# Altium schematic symbol library ebf_f407 motor dev board_原理图封装_AD格式.SCHLIB: 105 symbols
Pins are listed as number, name and electrical type; pins without a type are passive.

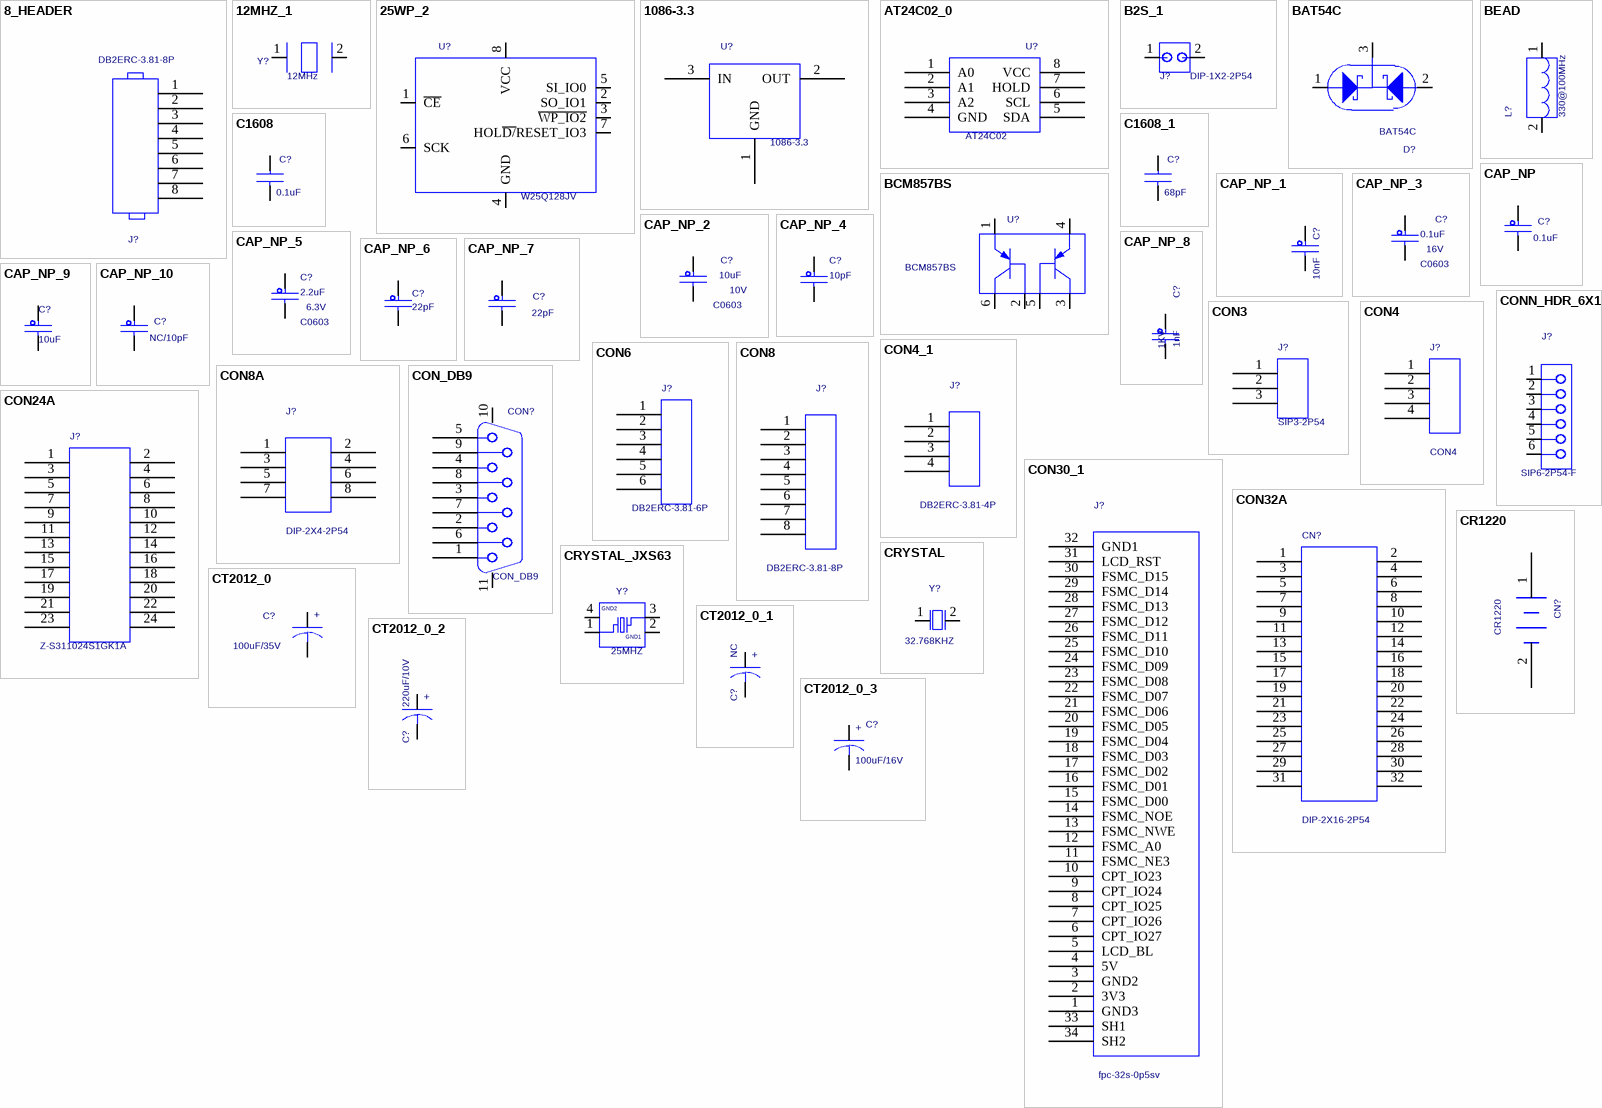
[diagram p0: symbols 8_HEADER to CT2012_0_3]

## 8_HEADER
designator J?  value DB2ERC-3.81-8P  (hidden comment: 8_HEADER)
PCB DECAL: DB2ERC-3P81-8P; Source_Path: C:\MYPROGRAM\CADENCE\SPB_16.6\TOOLS\CAPTURE\LIBRARY\CONNECTOR.OLB
footprint DB2ERC-3P81-8P
pins: 1, 2, 3, 4, 5, 6, 7, 8

## 12MHZ_1
designator Y?  value 12MHz  (hidden comment: 12MHZ_1)
PCB DECAL: XTAL-DIP; Source_Path: H:\NXP_RT1050\SCH\IMXRT1052_MB.DSN
footprint XTAL-DIP
pins: 1, 2

## 25WP_2
designator U?  value W25Q128JV  (hidden comment: 25WP_2)
IC MEM FLASH QPI 64Mb 1.65-1.95V SOIC8W; PCB DECAL: SOIC8-208; AGILE_PN: 334-77734; MFG_NAME01: ISSI; MFG_PN01: IS25WP064A-JBLE; Temp_Range: -40C to +105C; CAD_APPROVED: Yes; Source_Path: H:\NXP_RT1050\SCH\SCHLIB\IMXRT1052_1205.DSN; ROHS: Yes; HEIGHT: 2.16MM; CLASS: IC
footprint SOIC8-208
pins: 1 ~{CE}, 2 SO_IO1, 3 ~{WP_IO2}, 4 GND (power), 5 SI_IO0, 6 SCK, 7 HOL~{D/}RESET_IO3, 8 VCC (power)

## 1086-3.3
designator U?
PCB DECAL: TO252-2; Source_Path: H:\NXP_RT1050\SCH\SCHLIB\YHSCHLIB.OLB; Value: 1086-3.3
footprint TO252-2
pins: 1 GND, 2 OUT, 3 IN

## AT24C02_0
designator U?  value AT24C02  (hidden comment: AT24C02_0)
PCB DECAL: SOP8; Source_Path: F:\STM32\F407\F407 PRO\SCH\野火_F407霸天虎_原理图_V2.0.DSN; OriginalSymbolOrigin: (-20000,30000)
footprint SOP8
pins: 1 A0, 2 A1, 3 A2, 4 GND, 5 SDA, 6 SCL, 7 HOLD, 8 VCC

## B2S_1
designator J?  value DIP-1X2-2P54  (hidden comment: B2S_1)
PCB DECAL: HDR102; Source_Path: F:\STM32\F429\SCH\V4\STM32F429_F767_H743_MB_1129.DSN
footprint HDR102
pins: 1, 2

## BAT54C
designator D?
PCB DECAL: SOT23; Source_Path: C:\MYPROGRAM\CADENCE\SPB_16.6\TOOLS\CAPTURE\LIBRARY\SCH.OLB; Value: BAT54C
footprint SOT23
pins: 1 ANODE, 2 NC, 3 CATHODE

## BCM857BS
designator U?
PCB DECAL: SOT-363; Source_Path: E:\Z\20200420_7INC_LCD\SCH\LIBRARY1.OLB; Value: BCM857BS
footprint SOT-363
pins: 1, 2, 3, 4, 5, 6

## BEAD
designator L?  value 330@100MHz  (hidden comment: BEAD)
IND FER BEAD 330OHM@100MHZ 1.7A 0603; PART_TYPE: FERRITE\BEAD; AGILE_PN: 180-78156; Tolerance: 25%; MFG_NAME01: TDK; MFG_PN01: MPZ1608S331A; CAD_APPROVED: Yes; PCB DECAL: L0603; Source_Path: Q:\ORCADCIS\SYMBOLS\FCL_INDUCTOR.OLB; CLASS: DISCRETE; ROHS: Yes; HEIGHT: 0.95MM; TOL: 25%
footprint L0603
pins: 1, 2

## C1608
designator C?  value 0.1uF  (hidden comment: C1608)
PCB DECAL: C0603; Source_Path: D:\SOPGODS_VIEW_AP\MOBILE_AP_APPLICATION\LIBRARY\ORCAD\DEVICE.OLB
footprint C0603
pins: 1, 2

## C1608_1
designator C?, comment value 68pF  (hidden comment: C1608)
PCB DECAL: C0603; Source_Path: D:\SOPGODS_VIEW_AP\MOBILE_AP_APPLICATION\LIBRARY\ORCAD\DEVICE.OLB
footprint C0603
pins: 1, 2

## CAP_NP
designator C?  value 0.1uF  (hidden comment: CAP_NP)
CAP CER 0.1UF 10V 10% X5R 0402; PCB DECAL: C0603; AGILE_PN: 150-75634; MFG_NAME01: KEMET; MFG_PN01: C0402C104K8PAC; CAD_APPROVED: Yes; FPLIST: CC0402_25,CC0402_HD,0402_CC; Source_Path: Q:\ORCADCIS\SYMBOLS\FCL_CAPACITOR.OLB; CLASS: DISCRETE; Tolerance: 10%; ROHS: Yes; HEIGHT: 0.64MM; VOLTAGE: 10V
footprint C0603
pins: 1, 2

## CAP_NP_1
designator C?, comment value 10nF  (hidden comment: CAP_NP)
CAP CER 0.1UF 10V 10% X5R 0402; PCB DECAL: C0603; AGILE_PN: 150-75634; MFG_NAME01: KEMET; MFG_PN01: C0402C104K8PAC; CAD_APPROVED: Yes; FPLIST: CC0402_25,CC0402_HD,0402_CC; Source_Path: Q:\ORCADCIS\SYMBOLS\FCL_CAPACITOR.OLB; CLASS: DISCRETE; Tolerance: 10%; ROHS: Yes; HEIGHT: 0.64MM; VOLTAGE: 10V
footprint C0603
pins: 1, 2

## CAP_NP_2
designator C?, comment value 10uF  PCB DECAL: C0603  voltage_rating: 10V  (hidden comment: CAP_NP)
CAP CER 22UF 6.3V 20% X5R 0603; FPLIST: CC0603_OV,CC0603,0603_CC; CAD_APPROVED: Yes; MFG_PN01: CL10A226MQ8NRNE; MFG_NAME01: Samsung; AGILE_PN: 150-78467; Source_Path: Q:\ORCADCIS\SYMBOLS\FCL_CAPACITOR.OLB; CLASS: DISCRETE; VOLTAGE: 6.3V; HEIGHT: 1MM; ROHS: Yes; Tolerance: 20%
footprint C0603
pins: 1, 2

## CAP_NP_3
designator C?, comment value 0.1uF  voltage_rating: 16V  PCB DECAL: C0603  (hidden comment: CAP_NP)
CAP CER 22UF 6.3V 20% X5R 0603; AGILE_PN: 150-78467; MFG_NAME01: Samsung; MFG_PN01: CL10A226MQ8NRNE; CAD_APPROVED: Yes; FPLIST: CC0603_OV,CC0603,0603_CC; Source_Path: Q:\ORCADCIS\SYMBOLS\FCL_CAPACITOR.OLB; CLASS: DISCRETE; Tolerance: 20%; ROHS: Yes; HEIGHT: 1MM; VOLTAGE: 6.3V
footprint C0603
pins: 1, 2

## CAP_NP_4
designator C?, comment value 10pF  (hidden comment: CAP_NP)
CAP CER 18PF 50V 1% C0G 0402; ROOM: ATLAS-AP; PRIORITY_PN: 021-00248; CAD_APPROVED: Yes; MFG_PN01: CC0402FRNPO9BN180; MFG_NAME01: YAGEO; AGILE_PN: 150-76630; FPLIST: CC0402_25,CC0402_HD,0402_CC; PCB DECAL: C0603; Source_Path: Q:\ORCADCIS\SYMBOLS\FCL_CAPACITOR.OLB; CLASS: DISCRETE; VOLTAGE: 50V; HEIGHT: 0.59MM; ROHS: Yes; Tolerance: 1%
footprint C0603
pins: 1, 2

## CAP_NP_5
designator C?, comment value 2.2uF  voltage_rating: 6.3V  PCB DECAL: C0603  (hidden comment: CAP_NP)
CAP CER 22UF 6.3V 20% X5R 0603; AGILE_PN: 150-78467; MFG_NAME01: Samsung; MFG_PN01: CL10A226MQ8NRNE; CAD_APPROVED: Yes; FPLIST: CC0603_OV,CC0603,0603_CC; Source_Path: Q:\ORCADCIS\SYMBOLS\FCL_CAPACITOR.OLB; CLASS: DISCRETE; Tolerance: 20%; ROHS: Yes; HEIGHT: 1MM; VOLTAGE: 6.3V
footprint C0603
pins: 1, 2

## CAP_NP_6
designator C?, comment value 22pF  (hidden comment: CAP_NP)
CAP CER 4.7PF 50V 0.25PF C0G 0402; FPLIST: CC0402_25,CC0402_HD,0402_CC; CAD_APPROVED: Yes; MFG_PN01: GRM1555C1H4R7CA01D; MFG_NAME01: MURATA; AGILE_PN: 150-76335; PCB DECAL: C0603; Source_Path: Q:\ORCADCIS\SYMBOLS\FCL_CAPACITOR.OLB; CLASS: DISCRETE; VOLTAGE: 50V; HEIGHT: 0.55MM; ROHS: Yes; Tolerance: 0.25pF
footprint C0603
pins: 1, 2

## CAP_NP_7
designator C?, comment value 22pF  (hidden comment: CAP_NP)
CAP CER 0.1UF 10V 10% X5R 0402; FPLIST: CC0402_25,CC0402_HD,0402_CC; CAD_APPROVED: Yes; MFG_PN01: C0402C104K8PAC; MFG_NAME01: KEMET; AGILE_PN: 150-75634; PCB DECAL: C0603; Source_Path: Q:\ORCADCIS\SYMBOLS\FCL_CAPACITOR.OLB; CLASS: DISCRETE; VOLTAGE: 10V; HEIGHT: 0.64MM; ROHS: Yes; Tolerance: 10%
footprint C0603
pins: 1, 2

## CAP_NP_8
designator C?, comment value 1nF  Voltage: 1KV  (hidden comment: CAP_NP)
1206, X7R, 1KV, 5%(J); Partname: 贴片电容  1206; Mfr: Fenghua; Mfr_Part_Number: 1206B102J102NT; Part_Number: CA100036-01; Spec: 1nF/1000V 5%(J) X7R,1206B102J102NT(风华); Remarks: Checked; Gtech_Number: 50312061001J10001; PCB DECAL: C1206; Source_Path: D:\CADENCELIB\CAPTURELIB\LC_PASSIVE.OLB; Datasheet: D:\CadenceLib\Partbase\Datasheet\Capacitor\Fenghua\LC503_Fenghua-High_Volt_CAP.pdf; Tolerance: ±5%; Availability: 100
footprint C1206
pins: 1, 2

## CAP_NP_9
designator C?, comment value 10uF  (hidden comment: CAP_NP)
CAP CER 0.1UF 10V 10% X5R 0402; PCB DECAL: C0603; FPLIST: CC0402_25,CC0402_HD,0402_CC; CAD_APPROVED: Yes; MFG_PN01: C0402C104K8PAC; MFG_NAME01: KEMET; AGILE_PN: 150-75634; Source_Path: Q:\ORCADCIS\SYMBOLS\FCL_CAPACITOR.OLB; CLASS: DISCRETE; VOLTAGE: 10V; HEIGHT: 0.64MM; ROHS: Yes; Tolerance: 10%
footprint C0603
pins: 1, 2

## CAP_NP_10
designator C?, comment value NC/10pF  (hidden comment: CAP_NP)
CAP CER 0.1UF 10V 10% X5R 0402; PCB DECAL: C0603; FPLIST: CC0402_25,CC0402_HD,0402_CC; CAD_APPROVED: Yes; MFG_PN01: C0402C104K8PAC; MFG_NAME01: KEMET; AGILE_PN: 150-75634; Source_Path: Q:\ORCADCIS\SYMBOLS\FCL_CAPACITOR.OLB; CLASS: DISCRETE; VOLTAGE: 10V; HEIGHT: 0.64MM; ROHS: Yes; Tolerance: 10%
footprint C0603
pins: 1, 2

## CON3
designator J?  value SIP3-2P54  (hidden comment: CON3)
Source_Path: C:\MYPROGRAM\CADENCE\SPB_16.6\TOOLS\CAPTURE\LIBRARY\CONNECTOR.OLB; PCB DECAL: SIP3-2P54
footprint SIP3-2P54
pins: 1, 2, 3

## CON4
designator J?
PCB DECAL: XH2P54-4P; Source_Path: C:\MYPROGRAM\CADENCE\SPB_16.6\TOOLS\CAPTURE\LIBRARY\CONNECTOR.OLB; Value: CON4
footprint XH2P54-4P
pins: 1, 2, 3, 4

## CON4_1
designator J?, comment value DB2ERC-3.81-4P  (hidden comment: CON4)
PCB DECAL: DB2ERC-3P81-4P; Source_Path: C:\MYPROGRAM\CADENCE\SPB_16.6\TOOLS\CAPTURE\LIBRARY\CONNECTOR.OLB
footprint DB2ERC-3P81-4P
pins: 1, 2, 3, 4

## CON6
designator J?  value DB2ERC-3.81-6P  (hidden comment: CON6)
PCB DECAL: DB2ERC-3P81-6P; Source_Path: C:\MYPROGRAM\CADENCE\SPB_16.6\TOOLS\CAPTURE\LIBRARY\CONNECTOR.OLB
footprint DB2ERC-3P81-6P
pins: 1, 2, 3, 4, 5, 6

## CON8
designator J?  value DB2ERC-3.81-8P  (hidden comment: CON8)
PCB DECAL: DB2ERC-3P81-8P; Source_Path: C:\MYPROGRAM\CADENCE\SPB_16.6\TOOLS\CAPTURE\LIBRARY\CONNECTOR.OLB
footprint DB2ERC-3P81-8P
pins: 1, 2, 3, 4, 5, 6, 7, 8

## CON8A
designator J?  value DIP-2X4-2P54  (hidden comment: CON8A)
Source_Path: C:\MYPROGRAM\CADENCE\SPB_16.6\TOOLS\CAPTURE\LIBRARY\CONNECTOR.OLB; PCB DECAL: DIP-2X4-2P54
footprint DIP-2X4-2P54
pins: 1, 2, 3, 4, 5, 6, 7, 8

## CON24A
designator J?  value Z-S311024S1GK1A  (hidden comment: CON24A)
PCB DECAL: IDC2X12-2P54-180; Source_Path: C:\MYPROGRAM\CADENCE\SPB_16.6\TOOLS\CAPTURE\LIBRARY\CONNECTOR.OLB
footprint IDC2X12-2P54-180
pins: 1, 2, 3, 4, 5, 6, 7, 8, 9, 10, 11, 12, 13, 14, 15, 16, 17, 18, 19, 20, 21, 22, 23, 24

## CON30_1
designator J?  value fpc-32s-0p5sv  (hidden comment: CON30_1)
Source_Path: E:\20200629_MOTORMB\VERSION3\SCH\EBF_H743IIT6 MOTOR DEV BOARD_20200818.DSN; PCB DECAL: FPC-32S-0P5SV
footprint FPC-32S-0P5SV
pins: 1 GND3, 2 3V3, 3 GND2, 4 5V, 5 LCD_BL, 6 CPT_IO27, 7 CPT_IO26, 8 CPT_IO25, 9 CPT_IO24, 10 CPT_IO23, 11 FSMC_NE3, 12 FSMC_A0, 13 FSMC_NWE, 14 FSMC_NOE, 15 FSMC_D00, 16 FSMC_D01, 17 FSMC_D02, 18 FSMC_D03, 19 FSMC_D04, 20 FSMC_D05, 21 FSMC_D06, 22 FSMC_D07, 23 FSMC_D08, 24 FSMC_D09, 25 FSMC_D10, 26 FSMC_D11, 27 FSMC_D12, 28 FSMC_D13, 29 FSMC_D14, 30 FSMC_D15, 31 LCD_RST, 32 GND1, 33 SH1, 34 SH2

## CON32A
designator CN?  value DIP-2X16-2P54  (hidden comment: CON32A)
Source_Path: C:\MYPROGRAM\CADENCE\SPB_16.6\TOOLS\CAPTURE\LIBRARY\CONNECTOR.OLB; PCB DECAL: DIP-2X16-2P54
footprint DIP-2X16-2P54
pins: 1, 2, 3, 4, 5, 6, 7, 8, 9, 10, 11, 12, 13, 14, 15, 16, 17, 18, 19, 20, 21, 22, 23, 24, 25, 26, 27, 28, 29, 30, 31, 32

## CON_DB9
designator CON?
PCB DECAL: DB9-F; Source_Path: E:\WORK\LIB\ORCAD_SCH\MYLIB_10120926.OLB; Value: CON_DB9
footprint DB9-F
pins: 1, 2, 3, 4, 5, 6, 7, 8, 9, 10, 11

## CONN_HDR_6X1
designator J?  value SIP6-2P54-F  (hidden comment: CONN_HDR_6X1)
CON 1X6 SKT TH 100MIL SP 344H AU 118L; CAD_APPROVED: Yes; ASSY_OPT: DNP; Temp_Range: -40°C to +105°C; MFG_PN01: 08001S3 0611-29RF; MFG_NAME01: ANYTRONIC CORPORATION LIMITED; AGILE_PN: 210-81616; PCB DECAL: SIP6-2P54; Source_Path: Q:\ORCADCIS\SYMBOLS\FCL_CONNECTOR.OLB; CLASS: IO; HEIGHT: 8.75MM; ROHS: Yes
footprint SIP6-2P54
pins: 1, 2, 3, 4, 5, 6

## CR1220
designator CN?
Source_Path: H:\NXP_RT1050\SCH\SCHLIB\YHSCHLIB.OLB; PCB DECAL: CR1220; Value: CR1220
footprint CR1220
pins: 1 BAT, 2 GND

## CRYSTAL
designator Y?  value 32.768KHZ  (hidden comment: CRYSTAL)
XTAL 32.768KHZ 7PF 20PPM -- SMT; PCB DECAL: 3215; AGILE_PN: 230-78102; MFG_NAME01: EPSON ELECTRONICS; MFG_PN01: FC-135 32.7680KA-AG3; CAD_APPROVED: Yes; Source_Path: Q:\ORCADCIS\SYMBOLS\FCL_XTAL_OSC.OLB; CLASS: IC; ROHS: Yes; HEIGHT: 0.9MM
footprint 3215
pins: 1, 2

## CRYSTAL_JXS63
designator Y?  value 25MHZ  (hidden comment: CRYSTAL_JXS63)
XTAL 24MHZ -- 30PPM 3.2X2.5MM SMD; PCB DECAL: 3225; CAD_APPROVED: Yes; MFG_PN01: 7V24000002; MFG_NAME01: TXC CORP; AGILE_PN: 230-77452; Source_Path: Q:\ORCADCIS\SYMBOLS\FCL_XTAL_OSC.OLB; CLASS: IC; HEIGHT: 0.9MM; ROHS: Yes
footprint 3225
pins: 1, 2 GND1 (power), 3, 4 GND2 (power)

## CT2012_0
designator C?  value 100uF/35V  (hidden comment: CT2012_0)
PCB DECAL: EC6P3; Source_Path: D:\01_LSI_PROJECT\C100\00.SMDK俺惯\SCHEMATICS\C100\C100_CPU.OLB
footprint EC6P3
pins: 1, 2
text: +

## CT2012_0_1
designator C?, comment value NC  (hidden comment: CT2012_0)
PCB DECAL: CAP100; Source_Path: D:\01_LSI_PROJECT\C100\00.SMDK俺惯\SCHEMATICS\C100\C100_CPU.OLB
footprint CAP100
pins: 1, 2
text: +

## CT2012_0_2
designator C?, comment value 220uF/10V  (hidden comment: CT2012_0)
PCB DECAL: EC6P3; Source_Path: D:\01_LSI_PROJECT\C100\00.SMDK俺惯\SCHEMATICS\C100\C100_CPU.OLB
footprint EC6P3
pins: 1, 2
text: +

## CT2012_0_3
designator C?, comment value 100uF/16V  (hidden comment: CT2012_0)
PCB DECAL: EC6P3; Source_Path: D:\01_LSI_PROJECT\C100\00.SMDK俺惯\SCHEMATICS\C100\C100_CPU.OLB
footprint EC6P3
pins: 1, 2
text: +

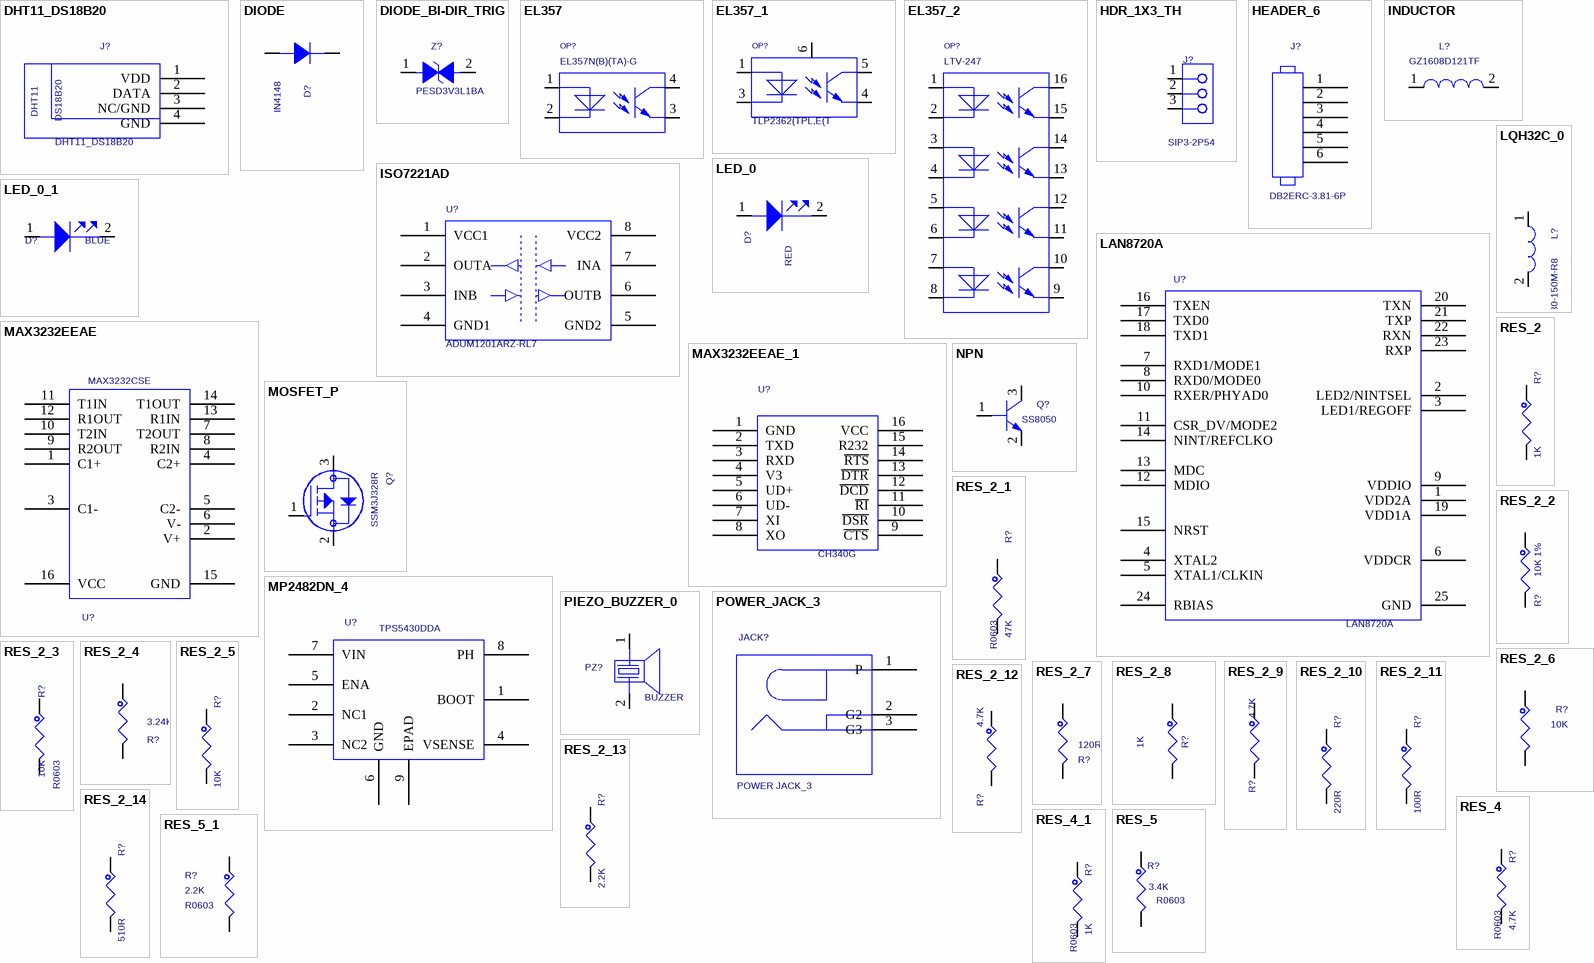
[diagram p1: symbols DHT11_DS18B20 to RES_5_1]

## DHT11_DS18B20
designator J?
Source_Path: H:\NXP_RT1050\SCH\SCHLIB\YHSCHLIB.OLB; PCB DECAL: DHT11_DS18B20; Value: DHT11_DS18B20
footprint DHT11_DS18B20
pins: 1 VDD, 2 DATA, 3 NC/GND, 4 GND
text: DHT11; DS18B20

## DIODE
designator D?  value IN4148  (hidden comment: DIODE)
PCB DECAL: LL34; Source_Path: C:\CADENCE\SPB_16.2\TOOLS\CAPTURE\LIBRARY\DISCRETE.OLB
footprint LL34
pins: 1 A, 2 K

## DIODE_BI-DIR_TRIG
designator Z?  value PESD3V3L1BA  (hidden comment: DIODE_BI-DIR_TRIG)
PCB DECAL: SOD323; ROOM: B-VGA_IN; Assembly: NC; Source_Path: D:\PCB_DATA\ORCAD_LIB\LRY2.OLB; Package: D0603
footprint SOD323
pins: 1, 2

## EL357
designator OP?  value EL357N(B)(TA)-G  (hidden comment: EL357)
Optocouplers,-55 to 110℃; Partname: 贴片光耦; Mfr: Everlight; Mfr_Part_Number: EL357NC; Part_Number: PT100008-01; PCB DECAL: OP-SMD-4; Spec: EL357NC(Everlight); Remarks: Checked; Gtech_Number: 31401010029; Source_Path: D:\CADENCELIB\CAPTURELIB\LC_DISCRETE.OLB; Availability: 0
footprint OP-SMD-4
pins: 1 ANODE, 2 CATHODE, 3 EMITTER, 4 COLLECTOR

## EL357_1
designator OP?  value TLP2362(TPL,E(T  (hidden comment: EL357_1)
Optocouplers,-55 to 110℃; Part_Number: PT100008-01; Mfr_Part_Number: EL357NC; Mfr: Everlight; Partname: 贴片光耦; Gtech_Number: 31401010029; Remarks: Checked; Spec: EL357NC(Everlight); PCB DECAL: TLP2362; Source_Path: F:\SCH-PCB\电机\EBFF407_MOTOR\SCH\F407_MOTOR.DSN; Availability: 0
footprint TLP2362
pins: 1 ANODE, 3 CATHODE, 4 GND, 5 VO, 6 VCC

## EL357_2
designator OP?  value LTV-247  (hidden comment: EL357_2)
Optocouplers,-55 to 110℃; Part_Number: PT100008-01; Mfr_Part_Number: EL357NC; Mfr: Everlight; Partname: 贴片光耦; Gtech_Number: 31401010029; Remarks: Checked; Spec: EL357NC(Everlight); PCB DECAL: OP-SMD-16; Source_Path: F:\SCH-PCB\电机\EBFF407_MOTOR\SCH\F407_MOTOR.DSN; Availability: 0
footprint OP-SMD-16
pins: 1 ANODE1, 2 CATHODE1, 3 ANODE2, 4 CATHODE2, 5 ANODE3, 6 CATHODE3, 7 ANODE4, 8 CATHODE4, 9 EMITTER4, 10 COLLECTOR4, 11 EMITTER3, 12 COLLECTOR3, 13 EMITTER2, 14 COLLECTOR2, 15 EMITTER1, 16 COLLECTOR1

## HDR_1X3_TH
designator J?  value SIP3-2P54  (hidden comment: HDR_1X3_TH)
Source_Path: D:\NXP_RT1050\RT1050_MB_PRO\SCH\LIBRARY1.OLB; CLASS: IO; PCB DECAL: SIP3-2P54
footprint SIP3-2P54
pins: 1, 2, 3

## HEADER_6
designator J?  value DB2ERC-3.81-6P  (hidden comment: HEADER_6)
PCB DECAL: DB2ERC-3P81-6P; Source_Path: C:\MYPROGRAM\CADENCE\SPB_16.6\TOOLS\CAPTURE\LIBRARY\CONNECTOR.OLB
footprint DB2ERC-3P81-6P
pins: 1, 2, 3, 4, 5, 6

## INDUCTOR
designator L?  value GZ1608D121TF  (hidden comment: INDUCTOR)
PCB DECAL: L0603; Source_Path: C:\MYPROGRAM\CADENCE\SPB_16.6\TOOLS\CAPTURE\LIBRARY\SCH.OLB
footprint L0603
pins: 1, 2

## ISO7221AD
designator U?  value ADUM1201ARZ-RL7  (hidden comment: ISO7221AD)
Dual Digital Isolators, Opposite directions, 1 Mbps, -40℃ to +125℃; Mfr: TI; Mfr_Part_Number: ISO7221ADR; Part_Number: IC100205-01; Partname: 贴片IC; Gtech_Number: 60101IS7221ADR001; Remarks: Checked; Spec: ISO7221ADR SOIC8(TI); PCB DECAL: SOP8; Source_Path: D:\CADENCELIB\CAPTURELIB\LC_IC_INTERFACE.OLB; Availability: 0
footprint SOP8
pins: 1 VCC1 (power), 2 OUTA, 3 INB, 4 GND1 (power), 5 GND2 (power), 6 OUTB, 7 INA, 8 VCC2 (power)

## LAN8720A
designator U?
PCB DECAL: QFN24; Source_Path: H:\NXP_RT1050\SCH\SCHLIB\YHSCHLIB.OLB; Value: LAN8720A
footprint QFN24
pins: 1 VDD2A, 2 LED2/NINTSEL, 3 LED1/REGOFF, 4 XTAL2, 5 XTAL1/CLKIN, 6 VDDCR, 7 RXD1/MODE1, 8 RXD0/MODE0, 9 VDDIO, 10 RXER/PHYAD0, 11 CSR_DV/MODE2, 12 MDIO, 13 MDC, 14 NINT/REFCLKO, 15 NRST, 16 TXEN, 17 TXD0, 18 TXD1, 19 VDD1A, 20 TXN, 21 TXP, 22 RXN, 23 RXP, 24 RBIAS, 25 GND

## LED_0
designator D?  value RED  (hidden comment: LED_0)
LED GRN SGL 25MA 0603; PCB DECAL: LED0603; CAD_APPROVED: Yes; MFG_PN01: KPT-1608SGC; MFG_NAME01: KINGBRIGHT; AGILE_PN: 370-76549; Source_Path: H:\NXP_RT1050\SCH\IMXRT1052_CORE\CORE\IMXRT1052_1207.DSN; CLASS: IC; HEIGHT: 0.85MM; ROHS: Yes
footprint LED0603
pins: 1 ANODE, 2 CATHODE

## LED_0_1
designator D?, comment value BLUE  (hidden comment: LED_0)
LED GRN SGL 25MA 0603; PCB DECAL: LED0603; AGILE_PN: 370-76549; MFG_NAME01: KINGBRIGHT; MFG_PN01: KPT-1608SGC; CAD_APPROVED: Yes; Source_Path: H:\NXP_RT1050\SCH\IMXRT1052_CORE\CORE\IMXRT1052_1207.DSN; CLASS: IC; ROHS: Yes; HEIGHT: 0.85MM
footprint LED0603
pins: 1 ANODE, 2 CATHODE

## LQH32C_0
designator L?  value MHCI06030-150M-R8  (hidden comment: LQH32C_0)
PCB DECAL: L6P6X7P3; Source_Path: D:\USER\ALLEGRO\2009\APR\SMDK_S5PC110_BASE\CAPTURE\S5PC110_SMDK_BASE_BD_SCHEMATIC_REV0.0.DSN
footprint L6P6X7P3
pins: 1, 2

## MAX3232EEAE
designator U?  value MAX3232CSE  (hidden comment: MAX3232EEAE)
PCB DECAL: SOIC16; Source_Path: E:\WORKS\PCB_DESIGN\CADENCE\LIB\PACKAGE_LIB\PACKAGE.OLB
footprint SOIC16
pins: 1 C1+, 2 V+, 3 C1-, 4 C2+, 5 C2-, 6 V-, 7 T2OUT, 8 R2IN, 9 R2OUT, 10 T2IN, 11 T1IN, 12 R1OUT, 13 R1IN, 14 T1OUT, 15 GND (power), 16 VCC (power)

## MAX3232EEAE_1
designator U?  value CH340G  (hidden comment: MAX3232EEAE_1)
PCB DECAL: SOIC16; Source_Path: H:\NXP_RT1050\SCH\IMXRT1052_MB.DSN
footprint SOIC16
pins: 1 GND, 2 TXD, 3 RXD, 4 V3, 5 UD+, 6 UD-, 7 XI, 8 XO, 9 ~{CTS}, 10 ~{DSR}, 11 ~{RI}, 12 ~{DCD}, 13 ~{DTR}, 14 ~{RTS}, 15 R232, 16 VCC (power)

## MOSFET_P
designator Q?  value SSM3J328R  (hidden comment: MOSFET_P)
TRAN PMOS PWR 12V 4.3A SOT23; AGILE_PN: 480-77718; MFG_NAME01: INTERNATIONAL RECTIFIER; MFG_PN01: IRLML6401TRPBF; CAD_APPROVED: Yes; Source_Path: Q:\ORCADCIS\SYMBOLS\FCL_SEMICONDUCTOR.OLB; CLASS: IC; PCB DECAL: SOT23; ROHS: Yes; HEIGHT: 1.12MM
footprint SOT23
pins: 1 GATE, 2 SOURCE, 3 DRAIN

## MP2482DN_4
designator U?  value TPS5430DDA  (hidden comment: MP2482DN_4)
PCB DECAL: SOIC8E; Source_Path: F:\SCH-PCB\电机\EBFF407_MOTOR\SCH\F407_MOTOR.DSN
footprint SOIC8E
pins: 1 BOOT, 2 NC1, 3 NC2, 4 VSENSE, 5 ENA, 6 GND, 7 VIN, 8 PH, 9 EPAD (power)

## NPN
designator Q?  value SS8050  (hidden comment: NPN)
TRAN NPN GEN 0.5A 45V AEC-Q101 SOT23; CAD_APPROVED: Yes; MFG_PN01: BC817,215; MFG_NAME01: NEXPERIA; AGILE_PN: 480-78842; Source_Path: Q:\ORCADCIS\SYMBOLS\FCL_SEMICONDUCTOR.OLB; CLASS: IC; HEIGHT: 1.1 MM; ROHS: Yes; PCB DECAL: SOT23
footprint SOT23
pins: 1 BASE, 2 EMITTER, 3 COLLECTOR

## PIEZO_BUZZER_0
designator PZ?  value BUZZER  (hidden comment: PIEZO_BUZZER_0)
Source_Path: D:\NXP_RT1050\RT1050_MB_PRO\SCH\IMXRT1052_MB_PRO_0417_4.DSN; PCB DECAL: BUZZER
footprint BUZZER
pins: 1 +, 2 -

## POWER_JACK_3
designator JACK?  value POWER JACK_3  (hidden comment: POWER_JACK_3)
PCB DECAL: JACK-2_5MM_B; Source_Path: E:\WORK\SCH5\X\SCH\DEVELOP_BOARD_V1-5-21.DSN
footprint JACK-2_5MM_B
pins: 1 P, 2 G2, 3 G3

## RES_2
designator R?  value 1K  (hidden comment: RES_2)
RES MF ZERO OHM 1/16W 5% 0402; PCB DECAL: R0603; FPLIST: RC0402_25,RC0402_HD,RC0402_X2,0402_CC; CAD_APPROVED: Yes; MFG_PN01: MCR01MZPJ000; MFG_NAME01: ROHM; AGILE_PN: 470-75394; Source_Path: Q:\ORCADCIS\SYMBOLS\FCL_RESISTOR.OLB; CLASS: DISCRETE; ROHS: Yes; Tolerance: 5%; HEIGHT: 0.45 MM
footprint R0603
pins: 1, 2

## RES_2_1
designator R?, comment value 47K  PCB DECAL: R0603  (hidden comment: RES_2)
RES MF 4.7K 1/16W 5% 0402; AGILE_PN: 470-75626; Tolerance: 1%; MFG_NAME01: KOA SPEER; MFG_PN01: RK73B1ETTP472J; CAD_APPROVED: Yes; FPLIST: RC0402_25,RC0402_HD,0402_CC; CLASS: DISCRETE; Source_Path: E:\Z\20200302_MOTODRIVE_H\SCH\EF_MOTODRIVE_MOS.DSN; ROHS: Yes; HEIGHT: 0.41mm
footprint R0603
pins: 1, 2

## RES_2_2
designator R?, comment value 10K 1%  (hidden comment: RES_2)
RES MF 1.0M 1/10W 5% 0402; PCB DECAL: R0603; FPLIST: RC0402_25,RC0402_HD,0402_CC; CAD_APPROVED: Yes; MFG_PN01: ERJ-2GEJ105X; MFG_NAME01: PANASONIC; AGILE_PN: 470-79978; Source_Path: Q:\ORCADCIS\SYMBOLS\FCL_RESISTOR.OLB; CLASS: DISCRETE; ROHS: Yes; Tolerance: 5%; HEIGHT: 0.4MM
footprint R0603
pins: 1, 2

## RES_2_3
designator R?, comment value 10K  PCB DECAL: R0603  (hidden comment: RES_2)
RES MF 4.7K 1/16W 5% 0402; AGILE_PN: 470-75626; Tolerance: 1%; MFG_NAME01: KOA SPEER; MFG_PN01: RK73B1ETTP472J; CAD_APPROVED: Yes; FPLIST: RC0402_25,RC0402_HD,0402_CC; CLASS: DISCRETE; Source_Path: E:\Z\20200302_MOTODRIVE_H\SCH\EF_MOTODRIVE_MOS.DSN; ROHS: Yes; HEIGHT: 0.41mm
footprint R0603
pins: 1, 2

## RES_2_4
designator R?, comment value 3.24K 1%  (hidden comment: RES_2)
RES MF 1.0M 1/10W 5% 0402; PCB DECAL: R0603; AGILE_PN: 470-79978; MFG_NAME01: PANASONIC; MFG_PN01: ERJ-2GEJ105X; CAD_APPROVED: Yes; FPLIST: RC0402_25,RC0402_HD,0402_CC; Source_Path: Q:\ORCADCIS\SYMBOLS\FCL_RESISTOR.OLB; CLASS: DISCRETE; HEIGHT: 0.4MM; Tolerance: 5%; ROHS: Yes
footprint R0603
pins: 1, 2

## RES_2_5
designator R?, comment value 10K  (hidden comment: RES_2)
RES MF ZERO OHM 1/16W 5% 0402; PCB DECAL: R0603; FPLIST: RC0402_25,RC0402_HD,RC0402_X2,0402_CC; CAD_APPROVED: Yes; MFG_PN01: MCR01MZPJ000; MFG_NAME01: ROHM; AGILE_PN: 470-75394; Source_Path: Q:\ORCADCIS\SYMBOLS\FCL_RESISTOR.OLB; CLASS: DISCRETE; ROHS: Yes; Tolerance: 5%; HEIGHT: 0.45 MM
footprint R0603
pins: 1, 2

## RES_2_6
designator R?, comment value 10K  (hidden comment: RES_2)
RES MF 1.0M 1/10W 5% 0402; PCB DECAL: R0603; FPLIST: RC0402_25,RC0402_HD,0402_CC; CAD_APPROVED: Yes; MFG_PN01: ERJ-2GEJ105X; MFG_NAME01: PANASONIC; AGILE_PN: 470-79978; Source_Path: Q:\ORCADCIS\SYMBOLS\FCL_RESISTOR.OLB; CLASS: DISCRETE; ROHS: Yes; Tolerance: 5%; HEIGHT: 0.4MM
footprint R0603
pins: 1, 2

## RES_2_7
designator R?, comment value 120R  (hidden comment: RES_2)
RES MF 1.0M 1/10W 5% 0402; PCB DECAL: R0603; AGILE_PN: 470-79978; MFG_NAME01: PANASONIC; MFG_PN01: ERJ-2GEJ105X; CAD_APPROVED: Yes; FPLIST: RC0402_25,RC0402_HD,0402_CC; Source_Path: Q:\ORCADCIS\SYMBOLS\FCL_RESISTOR.OLB; CLASS: DISCRETE; HEIGHT: 0.4MM; Tolerance: 5%; ROHS: Yes
footprint R0603
pins: 1, 2

## RES_2_8
designator R?, comment value 1K  (hidden comment: RES_2)
RES MF 1.0M 1/10W 5% 0402; PCB DECAL: R0603; FPLIST: RC0402_25,RC0402_HD,0402_CC; CAD_APPROVED: Yes; MFG_PN01: ERJ-2GEJ105X; MFG_NAME01: PANASONIC; AGILE_PN: 470-79978; Source_Path: Q:\ORCADCIS\SYMBOLS\FCL_RESISTOR.OLB; CLASS: DISCRETE; ROHS: Yes; Tolerance: 5%; HEIGHT: 0.4MM
footprint R0603
pins: 1, 2

## RES_2_9
designator R?, comment value 4.7K  (hidden comment: RES_2)
RES MF 1.0M 1/10W 5% 0402; PCB DECAL: R0603; AGILE_PN: 470-79978; MFG_NAME01: PANASONIC; MFG_PN01: ERJ-2GEJ105X; CAD_APPROVED: Yes; FPLIST: RC0402_25,RC0402_HD,0402_CC; Source_Path: Q:\ORCADCIS\SYMBOLS\FCL_RESISTOR.OLB; CLASS: DISCRETE; HEIGHT: 0.4MM; Tolerance: 5%; ROHS: Yes
footprint R0603
pins: 1, 2

## RES_2_10
designator R?, comment value 220R  (hidden comment: RES_2)
RES MF ZERO OHM 1/16W 5% 0402; PCB DECAL: R0603; AGILE_PN: 470-75394; MFG_NAME01: ROHM; MFG_PN01: MCR01MZPJ000; CAD_APPROVED: Yes; FPLIST: RC0402_25,RC0402_HD,RC0402_X2,0402_CC; Source_Path: Q:\ORCADCIS\SYMBOLS\FCL_RESISTOR.OLB; CLASS: DISCRETE; HEIGHT: 0.45 MM; Tolerance: 5%; ROHS: Yes
footprint R0603
pins: 1, 2

## RES_2_11
designator R?, comment value 100R  (hidden comment: RES_2)
RES MF ZERO OHM 1/16W 5% 0402; PCB DECAL: R0603; FPLIST: RC0402_25,RC0402_HD,RC0402_X2,0402_CC; CAD_APPROVED: Yes; MFG_PN01: MCR01MZPJ000; MFG_NAME01: ROHM; AGILE_PN: 470-75394; Source_Path: Q:\ORCADCIS\SYMBOLS\FCL_RESISTOR.OLB; CLASS: DISCRETE; ROHS: Yes; Tolerance: 5%; HEIGHT: 0.45 MM
footprint R0603
pins: 1, 2

## RES_2_12
designator R?, comment value 4.7K  (hidden comment: RES_2)
RES MF ZERO OHM 1/16W 5% 0402; PCB DECAL: R0603; FPLIST: RC0402_25,RC0402_HD,RC0402_X2,0402_CC; CAD_APPROVED: Yes; MFG_PN01: MCR01MZPJ000; MFG_NAME01: ROHM; AGILE_PN: 470-75394; Source_Path: Q:\ORCADCIS\SYMBOLS\FCL_RESISTOR.OLB; CLASS: DISCRETE; ROHS: Yes; Tolerance: 5%; HEIGHT: 0.45 MM
footprint R0603
pins: 1, 2

## RES_2_13
designator R?, comment value 2.2K  (hidden comment: RES_2)
RES MF ZERO OHM 1/16W 5% 0402; PCB DECAL: R0603; AGILE_PN: 470-75394; MFG_NAME01: ROHM; MFG_PN01: MCR01MZPJ000; CAD_APPROVED: Yes; FPLIST: RC0402_25,RC0402_HD,RC0402_X2,0402_CC; Source_Path: Q:\ORCADCIS\SYMBOLS\FCL_RESISTOR.OLB; CLASS: DISCRETE; HEIGHT: 0.45 MM; Tolerance: 5%; ROHS: Yes
footprint R0603
pins: 1, 2

## RES_2_14
designator R?, comment value 510R  (hidden comment: RES_2)
RES MF ZERO OHM 1/16W 5% 0402; PCB DECAL: R0603; FPLIST: RC0402_25,RC0402_HD,RC0402_X2,0402_CC; CAD_APPROVED: Yes; MFG_PN01: MCR01MZPJ000; MFG_NAME01: ROHM; AGILE_PN: 470-75394; Source_Path: Q:\ORCADCIS\SYMBOLS\FCL_RESISTOR.OLB; CLASS: DISCRETE; ROHS: Yes; Tolerance: 5%; HEIGHT: 0.45 MM
footprint R0603
pins: 1, 2

## RES_4
designator R?  value 4.7K  PCB DECAL: R0603  (hidden comment: RES_4)
RES MF 4.7K 1/16W 5% 0402; CLASS: DISCRETE; FPLIST: RC0402_25,RC0402_HD,0402_CC; CAD_APPROVED: Yes; MFG_PN01: RK73B1ETTP472J; MFG_NAME01: KOA SPEER; AGILE_PN: 470-75626; Source_Path: F:\NXP\RT1020\SCH\IMXRT1021_0928.DSN; HEIGHT: 0.41mm; ROHS: Yes; Tolerance: 5%
footprint R0603
pins: 1, 2

## RES_4_1
designator R?, comment value 1K  PCB DECAL: R0603  (hidden comment: RES_4)
RES MF 4.7K 1/16W 5% 0402; CLASS: DISCRETE; FPLIST: RC0402_25,RC0402_HD,0402_CC; CAD_APPROVED: Yes; MFG_PN01: RK73B1ETTP472J; MFG_NAME01: KOA SPEER; AGILE_PN: 470-75626; Source_Path: F:\NXP\RT1020\SCH\IMXRT1021_0928.DSN; HEIGHT: 0.41mm; ROHS: Yes; Tolerance: 5%
footprint R0603
pins: 1, 2

## RES_5
designator R?  value 3.4K  PCB DECAL: R0603  (hidden comment: RES_5)
RES MF 4.7K 1/16W 5% 0402; AGILE_PN: 470-75626; MFG_NAME01: KOA SPEER; MFG_PN01: RK73B1ETTP472J; CAD_APPROVED: Yes; FPLIST: RC0402_25,RC0402_HD,0402_CC; Source_Path: F:\NXP\RT1020\SCH\IMXRT1021_0928_1.DSN; CLASS: DISCRETE; Tolerance: 5%; ROHS: Yes; HEIGHT: 0.41mm
footprint R0603
pins: 1, 2

## RES_5_1
designator R?, comment value 2.2K  PCB DECAL: R0603  (hidden comment: RES_5)
RES MF 10K 1/16W 5% 0402; FPLIST: RC0402_25,RC0402_HD,0402_CC; CAD_APPROVED: Yes; MFG_PN01: CRCW040210K0JNED; MFG_NAME01: VISHAY INTERTECHNOLOGY; AGILE_PN: 470-75557; Source_Path: F:\NXP\RT1020\SCH\IMXRT1021_0928_1.DSN; CLASS: DISCRETE; ROHS: Yes; Tolerance: 5%; TOL: 5%; HEIGHT: 0.4 MM
footprint R0603
pins: 1, 2

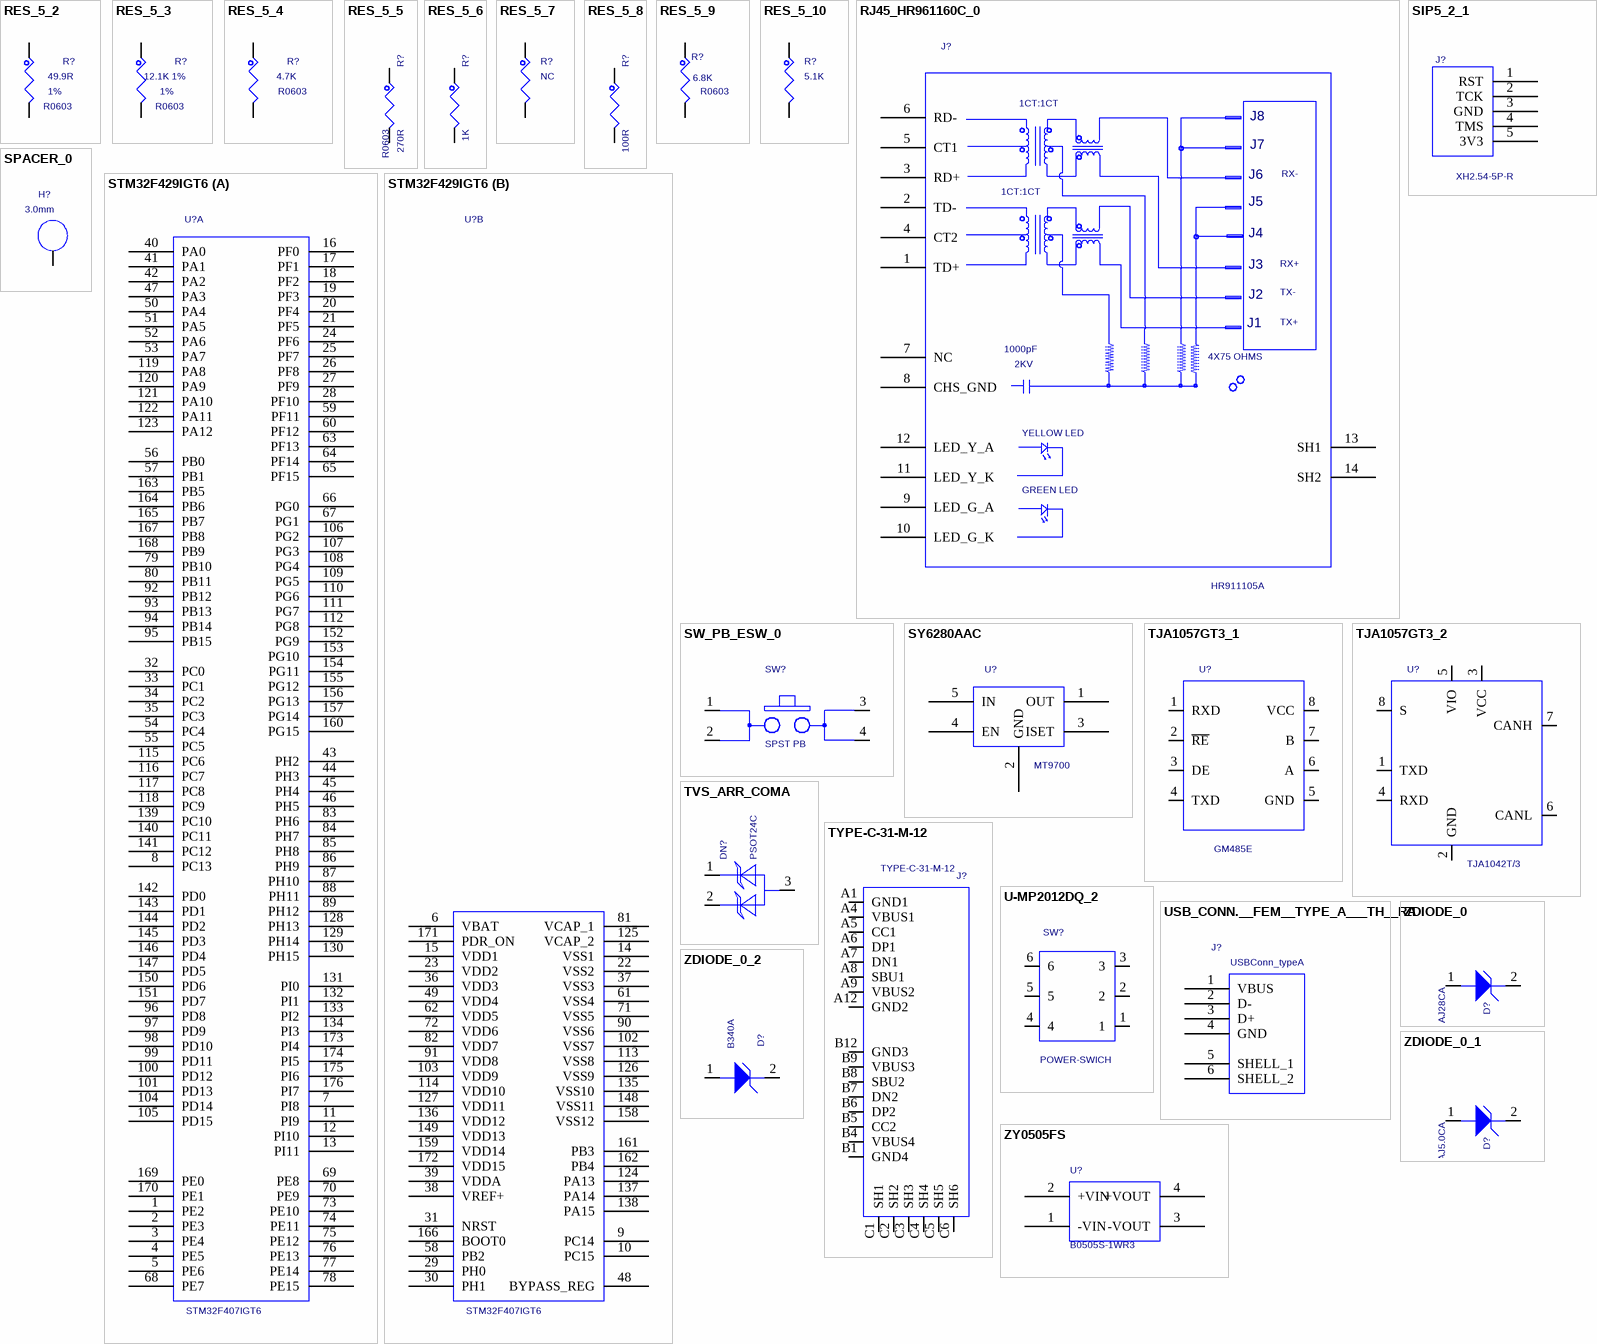
[diagram p2: symbols RES_5_2 to ZY0505FS]

## RES_5_2
designator R?, comment value 49.9R  PCB DECAL: R0603  Tolerance: 1%  (hidden comment: RES_5)
RES MF 180K 1/10W 1% AEC-Q200 0402; AGILE_PN: 470-31088; MFG_NAME01: KOA SPEER; MFG_PN01: RK73H1ETTP1803F; CAD_APPROVED: Yes; FPLIST: RC0402_25,RC0402_HD,0402_CC; Temp_Range: -55C to +155C; Source_Path: F:\NXP\RT1020\SCH\IMXRT1021_0928_1.DSN; CLASS: DISCRETE; ROHS: Yes; HEIGHT: 0.40 MM
footprint R0603
pins: 1, 2

## RES_5_3
designator R?, comment value 12.1K 1%  PCB DECAL: R0603  Tolerance: 1%  (hidden comment: RES_5)
RES MF 200K 1/10W 1% AEC-Q200 0402; AGILE_PN: 470-31093; MFG_NAME01: KOA SPEER; MFG_PN01: RK73H1ETTP2003F; CAD_APPROVED: Yes; FPLIST: RC0402_25,RC0402_HD,0402_CC; Temp_Range: -55C to +155C; Source_Path: F:\NXP\RT1020\SCH\IMXRT1021_0928_1.DSN; CLASS: DISCRETE; HEIGHT: 0.40 MM; ROHS: Yes
footprint R0603
pins: 1, 2

## RES_5_4
designator R?, comment value 4.7K  PCB DECAL: R0603  (hidden comment: RES_5)
RES MF ZERO OHM 1/16W 5% 0402; AGILE_PN: 470-75394; MFG_NAME01: ROHM; MFG_PN01: MCR01MZPJ000; CAD_APPROVED: Yes; FPLIST: RC0402_25,RC0402_HD,RC0402_X2,0402_CC; Source_Path: F:\NXP\RT1020\SCH\IMXRT1021_0928_1.DSN; CLASS: DISCRETE; HEIGHT: 0.45 MM; Tolerance: 5%; ROHS: Yes
footprint R0603
pins: 1, 2

## RES_5_5
designator R?, comment value 270R  PCB DECAL: R0603  (hidden comment: RES_5)
RES MF ZERO OHM 1/16W 5% 0402; AGILE_PN: 470-75394; MFG_NAME01: ROHM; MFG_PN01: MCR01MZPJ000; CAD_APPROVED: Yes; FPLIST: RC0402_25,RC0402_HD,RC0402_X2,0402_CC; Source_Path: F:\NXP\RT1020\SCH\IMXRT1021_0928_1.DSN; CLASS: DISCRETE; HEIGHT: 0.45 MM; Tolerance: 5%; ROHS: Yes
footprint R0603
pins: 1, 2

## RES_5_6
designator R?, comment value 1K  (hidden comment: RES_5)
RES MF 220 OHM 1/10W 5% 0603; PCB DECAL: R0603; FPLIST: RC0603_OV,RC0603,0603_CC; CAD_APPROVED: Yes; MFG_PN01: RK73B1JTTD221J; MFG_NAME01: KOA SPEER; AGILE_PN: 470-30297; Source_Path: F:\NXP\RT1020\SCH\IMXRT1021_0928_1.DSN; CLASS: DISCRETE; HEIGHT: 0.6MM; ROHS: Yes; Tolerance: 5%
footprint R0603
pins: 1, 2

## RES_5_7
designator R?, comment value NC  (hidden comment: RES_5)
RES MF 220 OHM 1/10W 5% 0603; PCB DECAL: R0603; AGILE_PN: 470-30297; MFG_NAME01: KOA SPEER; MFG_PN01: RK73B1JTTD221J; CAD_APPROVED: Yes; FPLIST: RC0603_OV,RC0603,0603_CC; Source_Path: F:\NXP\RT1020\SCH\IMXRT1021_0928_1.DSN; CLASS: DISCRETE; Tolerance: 5%; ROHS: Yes; HEIGHT: 0.6MM
footprint R0603
pins: 1, 2

## RES_5_8
designator R?, comment value 100R  (hidden comment: RES_5)
RES MF 220 OHM 1/10W 5% 0603; PCB DECAL: R0603; FPLIST: RC0603_OV,RC0603,0603_CC; CAD_APPROVED: Yes; MFG_PN01: RK73B1JTTD221J; MFG_NAME01: KOA SPEER; AGILE_PN: 470-30297; Source_Path: F:\NXP\RT1020\SCH\IMXRT1021_0928_1.DSN; CLASS: DISCRETE; HEIGHT: 0.6MM; ROHS: Yes; Tolerance: 5%
footprint R0603
pins: 1, 2

## RES_5_9
designator R?, comment value 6.8K  PCB DECAL: R0603  (hidden comment: RES_5)
RES MF 4.7K 1/16W 5% 0402; FPLIST: RC0402_25,RC0402_HD,0402_CC; CAD_APPROVED: Yes; MFG_PN01: RK73B1ETTP472J; MFG_NAME01: KOA SPEER; AGILE_PN: 470-75626; Source_Path: F:\NXP\RT1020\SCH\IMXRT1021_0928_1.DSN; CLASS: DISCRETE; HEIGHT: 0.41mm; ROHS: Yes; Tolerance: 5%
footprint R0603
pins: 1, 2

## RES_5_10
designator R?, comment value 5.1K  (hidden comment: RES_5)
RES MF 220 OHM 1/10W 5% 0603; PCB DECAL: R0603; AGILE_PN: 470-30297; MFG_NAME01: KOA SPEER; MFG_PN01: RK73B1JTTD221J; CAD_APPROVED: Yes; FPLIST: RC0603_OV,RC0603,0603_CC; Source_Path: F:\NXP\RT1020\SCH\IMXRT1021_0928_1.DSN; CLASS: DISCRETE; Tolerance: 5%; ROHS: Yes; HEIGHT: 0.6MM
footprint R0603
pins: 1, 2

## RJ45_HR961160C_0
designator J?  value HR911105A  (hidden comment: RJ45_HR961160C_0)
CON 12 RJ45 SHLD RA SM 1.02MM SP 625H --; CAD_APPROVED: Yes; MFG_NAME01: HanRun Electronics Co., Ltd; AGILE_PN: 211-79967; Source_Path: H:\NXP_RT1050\SCH\IMXRT1052_MB.DSN; CLASS: IO; HEIGHT: 15.88 MM; ROHS: Yes; MFG_PN01: HR961160C; PCB DECAL: RJ45
footprint RJ45
pins: 1 TD+, 2 TD-, 3 RD+, 4 CT2, 5 CT1, 6 RD-, 7 NC, 8 CHS_GND, 9 LED_G_A, 10 LED_G_K, 11 LED_Y_K, 12 LED_Y_A, 13 SH1, 14 SH2
text: 1CT:1CT; J8; J7; RX-; J6; J5; J4; RX+; J3; TX-; J2; TX+; J1; 1000pF; 4X75 OHMS; 2KV; YELLOW LED; GREEN LED

## SIP5_2_1
designator J?  value XH2.54-5P-R  (hidden comment: SIP5_2_1)
PCB DECAL: XH2P54-5P-R; Source_Path: F:\NXP\RT1020\SCH\IMXRT1021.DSN
footprint XH2P54-5P-R
pins: 1 RST, 2 TCK, 3 GND, 4 TMS, 5 3V3

## SPACER_0
designator H?  value 3.0mm  (hidden comment: SPACER_0)
FASTENER, STANDOFF 4.5MMX3.53XM3.0X0.5 ROUND THR .635"L BRASS; PCB DECAL: T4R2-6R2_BOTSMT; CAD_APPROVED: Yes; ASSY_OPT: DNP; MFG_PN01: MSS251-R-1-A-16; MFG_NAME01: UNICORP; AGILE_PN: 280-76498; Source_Path: H:\NXP_RT1050\SCH\IMXRT1052.DSN; CLASS: IC; HEIGHT: 16.13MM; ROHS: Yes
footprint T4R2-6R2_BOTSMT
pins: 1 NC_1

## STM32F429IGT6
designator U?  value STM32F407IGT6  (hidden comment: STM32F429IGT6)
PCB DECAL: LQFP176; Source_Path: C:\MYPROGRAM\CADENCE\SPB_16.6\TOOLS\CAPTURE\LIBRARY\SCH.OLB
footprint LQFP176
part A pins: 1 PE2, 2 PE3, 3 PE4, 4 PE5, 5 PE6, 7 PI8, 8 PC13, 11 PI9, 12 PI10, 13 PI11, 16 PF0, 17 PF1, 18 PF2, 19 PF3, 20 PF4, 21 PF5, 24 PF6, 25 PF7, 26 PF8, 27 PF9, 28 PF10, 32 PC0, 33 PC1, 34 PC2, 35 PC3, 40 PA0, 41 PA1, 42 PA2, 43 PH2, 44 PH3, 45 PH4, 46 PH5, 47 PA3, 50 PA4, 51 PA5, 52 PA6, 53 PA7, 54 PC4, 55 PC5, 56 PB0, 57 PB1, 59 PF11, 60 PF12, 63 PF13, 64 PF14, 65 PF15, 66 PG0, 67 PG1, 68 PE7, 69 PE8, 70 PE9, 73 PE10, 74 PE11, 75 PE12, 76 PE13, 77 PE14, 78 PE15, 79 PB10, 80 PB11, 83 PH6, 84 PH7, 85 PH8, 86 PH9, 87 PH10, 88 PH11, 89 PH12, 92 PB12, 93 PB13, 94 PB14, 95 PB15, 96 PD8, 97 PD9, 98 PD10, 99 PD11, 100 PD12, 101 PD13, 104 PD14, 105 PD15, 106 PG2, 107 PG3, 108 PG4, 109 PG5, 110 PG6, 111 PG7, 112 PG8, 115 PC6, 116 PC7, 117 PC8, 118 PC9, 119 PA8, 120 PA9, 121 PA10, 122 PA11, 123 PA12, 128 PH13, 129 PH14, 130 PH15, 131 PI0, 132 PI1, 133 PI2, 134 PI3, 139 PC10, 140 PC11, 141 PC12, 142 PD0, 143 PD1, 144 PD2, 145 PD3, 146 PD4, 147 PD5, 150 PD6, 151 PD7, 152 PG9, 153 PG10, 154 PG11, 155 PG12, 156 PG13, 157 PG14, 160 PG15, 163 PB5, 164 PB6, 165 PB7, 167 PB8, 168 PB9, 169 PE0, 170 PE1, 173 PI4, 174 PI5, 175 PI6, 176 PI7
part B pins: 6 VBAT, 9 PC14, 10 PC15, 14 VSS1, 15 VDD1, 22 VSS2, 23 VDD2, 29 PH0, 30 PH1, 31 NRST, 36 VDD3, 37 VSS3, 38 VREF+, 39 VDDA, 48 BYPASS_REG, 49 VDD4, 58 PB2, 61 VSS4, 62 VDD5, 71 VSS5, 72 VDD6, 81 VCAP_1, 82 VDD7, 90 VSS6, 91 VDD8, 102 VSS7, 103 VDD9, 113 VSS8, 114 VDD10, 124 PA13, 125 VCAP_2, 126 VSS9, 127 VDD11, 135 VSS10, 136 VDD12, 137 PA14, 138 PA15, 148 VSS11, 149 VDD13, 158 VSS12, 159 VDD14, 161 PB3, 162 PB4, 166 BOOT0, 171 PDR_ON, 172 VDD15

## SW_PB_ESW_0
designator SW?  value SPST PB  (hidden comment: SW_PB_ESW_0)
SW SPST MOM NO PB TACT 50mA 50V SMT; PCB DECAL: SW4_PB_ESW_SM_P177; AGILE_PN: 510-77562; MFG_NAME01: E SWITCH; MFG_PN01: TL3301AF260QG/TR; CAD_APPROVED: Yes; Source_Path: H:\NXP_RT1050\SCH\IMXRT1052_MB.DSN; CLASS: IC; ROHS: Yes; HEIGHT: 5MM
footprint SW4_PB_ESW_SM_P177
pins: 1 A1, 2 A2, 3 B1, 4 B2

## SY6280AAC
designator U?  value MT9700  (hidden comment: SY6280AAC)
PCB DECAL: SOT23-5; Source_Path: G:\开发板代码\郭老师资料\IMX6资料\原理图\SABRESDB_DESIGNFILES\DEVELOP\LIBRARY1.OLB
footprint SOT23-5
pins: 1 OUT, 2 GND, 3 ISET, 4 EN, 5 IN

## TJA1057GT3_1
designator U?  value GM485E  (hidden comment: TJA1057GT3_1)
IC XCVR CAN 4.75-5.25V/2.95-5.25V AEC-Q100 SO8; PCB DECAL: SOP8; CAD_APPROVED: Yes; MFG_PN01: TJA1057GT/3; MFG_NAME01: NXP SEMICONDUCTORS; AGILE_PN: 312-81479; Source_Path: H:\NXP_RT1050\SCH\IMXRT1052_MB.DSN; HEIGHT: 1.75MM; ROHS: Yes; CLASS: IC
footprint SOP8
pins: 1 RXD, 2 ~{RE}, 3 DE, 4 TXD, 5 GND, 6 A, 7 B, 8 VCC

## TJA1057GT3_2
designator U?  value TJA1042T/3  (hidden comment: TJA1057GT3_2)
IC XCVR CAN 4.75-5.25V/2.95-5.25V AEC-Q100 SO8; PCB DECAL: SOP8; AGILE_PN: 312-81479; MFG_NAME01: NXP SEMICONDUCTORS; MFG_PN01: TJA1057GT/3; CAD_APPROVED: Yes; Source_Path: F:\STM32\F407\F407 PRO\SCH\STM32F407_PRO.DSN; ROHS: Yes; HEIGHT: 1.75MM; CLASS: IC
footprint SOP8
pins: 1 TXD, 2 GND (power), 3 VCC (power), 4 RXD, 5 VIO (power), 6 CANL (io), 7 CANH (io), 8 S

## TVS_ARR_COMA
designator DN?  value PSOT24C  (hidden comment: TVS_ARR_COMA)
VF=1.5V, Ppp=500W, -55℃ to +150℃; Part_Number: DI200067-01; Mfr: PROTEK; Partname: 贴片瞬态抑制器; PCB DECAL: SOT23; Voltage: 24V; Gtech_Number: 3040204A082; Remarks: Checked; Spec: PSOT24C　SOT23(PROTEK); Source_Path: D:\CADENCELIB\CAPTURELIB\LC_DISCRETE.OLB; Mfr_Part_Number: PSOT24C; Availability: 1
footprint SOT23
pins: 1 C1, 2 C2, 3 A

## TYPE-C-31-M-12
designator J?
Source_Path: C:\MYPROGRAM\CADENCE\SPB_16.6\TOOLS\CAPTURE\LIBRARY\SCH.OLB; PCB DECAL: TYPE-C-31-M-12; Value: TYPE-C-31-M-12
footprint TYPE-C-31-M-12
pins: A1 GND1, A4 VBUS1, A5 CC1, A6 DP1, A7 DN1, A8 SBU1, A9 VBUS2, A12 GND2, B1 GND4, B4 VBUS4, B5 CC2, B6 DP2, B7 DN2, B8 SBU2, B9 VBUS3, B12 GND3, C1 SH1, C2 SH2, C3 SH3, C4 SH4, C5 SH5, C6 SH6

## U-MP2012DQ_2
designator SW?  value POWER-SWICH  (hidden comment: U-MP2012DQ_2)
PCB DECAL: SWITCH_DDSZ; Source_Path: H:\NXP_RT1050\SCH\IMXRT1052_MB.DSN
footprint SWITCH_DDSZ
pins: 1, 2, 3, 4, 5, 6

## USB_CONN.__FEM__TYPE_A___TH__RA
designator J?  value USBConn_typeA  (hidden comment: USB_CONN.__FEM__TYPE_A___TH__RA)
PCB DECAL: USB-A-SM; Source_Path: O:\CONNECTORS.OLB; P/N: 180K00400S; CLABCONF0: = SB-SOM
footprint USB-A-SM
pins: 1 VBUS, 2 D-, 3 D+, 4 GND, 5 SHELL_1, 6 SHELL_2

## ZDIODE_0
designator D?  value SMAJ28CA  (hidden comment: ZDIODE_0)
DIODE ZNR -- 0.2W 5.1V AEC-Q101 SOD523; PCB DECAL: DO214; AGILE_PN: 480-77217; MFG_NAME01: ON SEMICONDUCTOR; MFG_PN01: MM5Z5V1ST1G; CAD_APPROVED: Yes; Source_Path: H:\NXP_RT1050\SCH\IMXRT1052_MB.DSN; CLASS: IC; ROHS: Yes; HEIGHT: 0.7MM
footprint DO214
pins: 1 ANODE, 2 CATHODE

## ZDIODE_0_1
designator D?, comment value SMAJ5.0CA  (hidden comment: ZDIODE_0)
DIODE ZNR -- 0.2W 5.1V AEC-Q101 SOD523; CAD_APPROVED: Yes; MFG_PN01: MM5Z5V1ST1G; MFG_NAME01: ON SEMICONDUCTOR; AGILE_PN: 480-77217; PCB DECAL: DO214; Source_Path: H:\NXP_RT1050\SCH\IMXRT1052_MB.DSN; CLASS: IC; HEIGHT: 0.7MM; ROHS: Yes
footprint DO214
pins: 1 ANODE, 2 CATHODE

## ZDIODE_0_2
designator D?, comment value B340A  (hidden comment: ZDIODE_0)
DIODE ZNR -- 0.2W 5.1V AEC-Q101 SOD523; PCB DECAL: SMA; AGILE_PN: 480-77217; MFG_NAME01: ON SEMICONDUCTOR; MFG_PN01: MM5Z5V1ST1G; CAD_APPROVED: Yes; Source_Path: H:\NXP_RT1050\SCH\IMXRT1052_MB.DSN; CLASS: IC; ROHS: Yes; HEIGHT: 0.7MM
footprint SMA
pins: 1 ANODE, 2 CATHODE

## ZY0505FS
designator U?  value B0505S-1WR3  (hidden comment: ZY0505FS)
VIN=5V, VOUT=5V, -40℃ to +85℃; Mfr: ZLG; Mfr_Part_Number: ZY0505FS-1W; Part_Number: IC100194-01; Partname: 插脚IC; PCB DECAL: B0505S; Gtech_Number: 60204NME0505S0101; Remarks: Checked; Spec: ZY0505FS-1W SIP(周立功); Source_Path: D:\CADENCELIB\CAPTURELIB\LC_IC_POWER.OLB; Availability: 0
footprint B0505S
pins: 1 -VIN, 2 +VIN, 3 -VOUT, 4 +VOUT